# Altium footprint library DB-1S.PcbLib: 1 footprints
Each footprint in its own frame and in the unit in brackets; x right, y up, seen from the top. Pads: shape width x height; smd on the part's side, far side on the other; paste and mask are expansions set on the pad; w line width, h text height; cw(c..) or ccw(c..) is an arc to the next point about the centre after c.
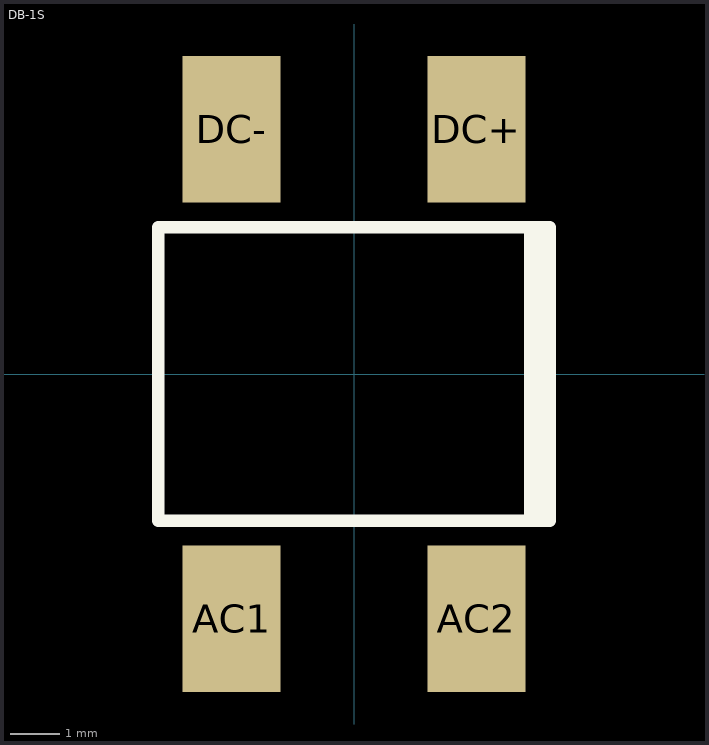
[diagram p0: the footprint, top view; thin cyan lines are the x and y axes]

## DB-1S [mm]
pads (4):
  rect 2x3 smd: AC1(-2.5,-5) AC2(2.5,-5) DC+(2.5,5) DC-(-2.5,5)
Top Overlay:
  lines w0.254: 3.6,-3 3.6,3 ; 3.8,-3 3.8,3 ; -4,-3 4,-3 4,3 -4,3 -4,-3